# Altium integrated library WS-DISU 2.54 mm piano type compact SMD Dip Switch with flat actuator.IntLib: 18 symbols
Pins are listed as number, name and electrical type; pins without a type are passive.

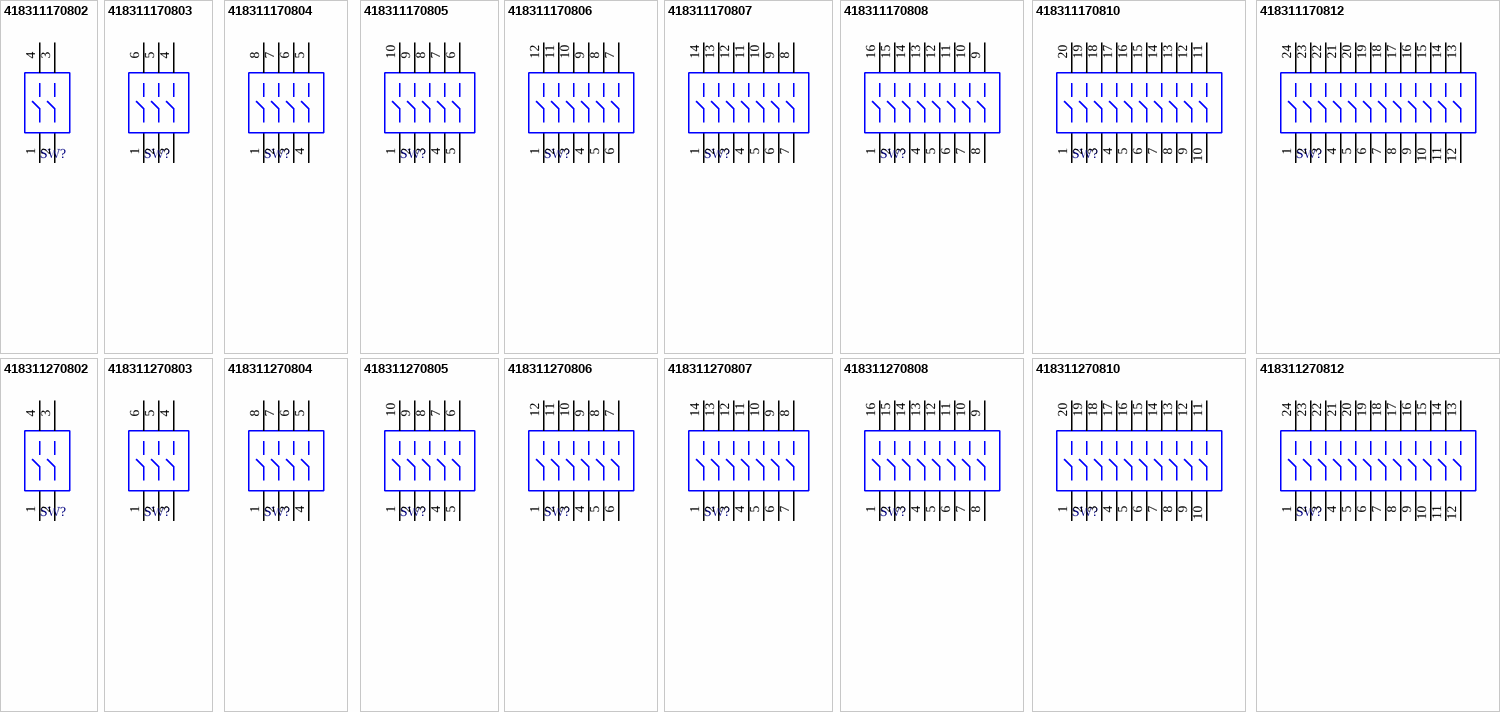
[diagram p0: symbols 418311170802 to 418311270812]

## 418311170802
designator SW?
WS-DISU 2.54 mm piano type compact SMD Dip Switch with flat actuator; PartNumber: 418311170802; NoPins: 4; PackageReference: 418311170802; ComponentLink1Description: Manufacturer URL; ComponentLink1URL: http://www.we-online.com; ComponentLink2Description: Datasheet; ComponentLink2URL: http://katalog.we-online.de/em/datasheet/4183111708xx.pdf
footprint 418311170802 (02p, 2.54mm Pitch, Piano, Box Type SMT, flat Actuator, black, without Tape, T&R)
pins: 1, 2, 3, 4

## 418311170803
designator SW?
WS-DISU 2.54 mm piano type compact SMD Dip Switch with flat actuator; PartNumber: 418311170803; NoPins: 6; PackageReference: 418311170803; ComponentLink1Description: Manufacturer URL; ComponentLink1URL: http://www.we-online.com; ComponentLink2Description: Datasheet; ComponentLink2URL: http://katalog.we-online.de/em/datasheet/4183111708xx.pdf
footprint 418311170803 (03p, 2.54mm Pitch, Piano, Box Type SMT, flat Actuator, black, without Tape, T&R)
pins: 1, 2, 3, 4, 5, 6

## 418311170804
designator SW?
WS-DISU 2.54 mm piano type compact SMD Dip Switch with flat actuator; PartNumber: 418311170804; NoPins: 8; PackageReference: 418311170804; ComponentLink1Description: Manufacturer URL; ComponentLink1URL: http://www.we-online.com; ComponentLink2Description: Datasheet; ComponentLink2URL: http://katalog.we-online.de/em/datasheet/4183111708xx.pdf
footprint 418311170804 (04p, 2.54mm Pitch, Piano, Box Type SMT, flat Actuator, black, without Tape, T&R)
pins: 1, 2, 3, 4, 5, 6, 7, 8

## 418311170805
designator SW?
WS-DISU 2.54 mm piano type compact SMD Dip Switch with flat actuator; PartNumber: 418311170805; NoPins: 10; PackageReference: 418311170805; ComponentLink1Description: Manufacturer URL; ComponentLink1URL: http://www.we-online.com; ComponentLink2Description: Datasheet; ComponentLink2URL: http://katalog.we-online.de/em/datasheet/4183111708xx.pdf
footprint 418311170805 (05p, 2.54mm Pitch, Piano, Box Type SMT, flat Actuator, black, without Tape, T&R)
pins: 1, 2, 3, 4, 5, 6, 7, 8, 9, 10

## 418311170806
designator SW?
WS-DISU 2.54 mm piano type compact SMD Dip Switch with flat actuator; PartNumber: 418311170806; NoPins: 12; PackageReference: 418311170806; ComponentLink1Description: Manufacturer URL; ComponentLink1URL: http://www.we-online.com; ComponentLink2Description: Datasheet; ComponentLink2URL: http://katalog.we-online.de/em/datasheet/4183111708xx.pdf
footprint 418311170806 (06p, 2.54mm Pitch, Piano, Box Type SMT, flat Actuator, black, without Tape, T&R)
pins: 1, 2, 3, 4, 5, 6, 7, 8, 9, 10, 11, 12

## 418311170807
designator SW?
WS-DISU 2.54 mm piano type compact SMD Dip Switch with flat actuator; PartNumber: 418311170807; NoPins: 14; PackageReference: 418311170807; ComponentLink1Description: Manufacturer URL; ComponentLink1URL: http://www.we-online.com; ComponentLink2Description: Datasheet; ComponentLink2URL: http://katalog.we-online.de/em/datasheet/4183111708xx.pdf
footprint 418311170807 (07p, 2.54mm Pitch, Piano, Box Type SMT, flat Actuator, black, without Tape, T&R)
pins: 1, 2, 3, 4, 5, 6, 7, 8, 9, 10, 11, 12, 13, 14

## 418311170808
designator SW?
WS-DISU 2.54 mm piano type compact SMD Dip Switch with flat actuator; PartNumber: 418311170808; NoPins: 16; PackageReference: 418311170808; ComponentLink1Description: Manufacturer URL; ComponentLink1URL: http://www.we-online.com; ComponentLink2Description: Datasheet; ComponentLink2URL: http://katalog.we-online.de/em/datasheet/4183111708xx.pdf
footprint 418311170808 (08p, 2.54mm Pitch, Piano, Box Type SMT, flat Actuator, black, without Tape, T&R)
pins: 1, 2, 3, 4, 5, 6, 7, 8, 9, 10, 11, 12, 13, 14, 15, 16

## 418311170810
designator SW?
WS-DISU 2.54 mm piano type compact SMD Dip Switch with flat actuator; PartNumber: 418311170810; NoPins: 20; PackageReference: 418311170810; ComponentLink1Description: Manufacturer URL; ComponentLink1URL: http://www.we-online.com; ComponentLink2Description: Datasheet; ComponentLink2URL: http://katalog.we-online.de/em/datasheet/4183111708xx.pdf
footprint 418311170810 (10p, 2.54mm Pitch, Piano, Box Type SMT, flat Actuator, black, without Tape, T&R)
pins: 1, 2, 3, 4, 5, 6, 7, 8, 9, 10, 11, 12, 13, 14, 15, 16, 17, 18, 19, 20

## 418311170812
designator SW?
WS-DISU 2.54 mm piano type compact SMD Dip Switch with flat actuator; PartNumber: 418311170812; NoPins: 24; PackageReference: 418311170812; ComponentLink1Description: Manufacturer URL; ComponentLink1URL: http://www.we-online.com; ComponentLink2Description: Datasheet; ComponentLink2URL: http://katalog.we-online.de/em/datasheet/4183111708xx.pdf
footprint 418311170812 (12p, 2.54mm Pitch, Piano, Box Type SMT, flat Actuator, black, without Tape, T&R)
pins: 1, 2, 3, 4, 5, 6, 7, 8, 9, 10, 11, 12, 13, 14, 15, 16, 17, 18, 19, 20, 21, 22, 23, 24

## 418311270802
designator SW?
WS-DISU 2.54 mm piano type compact SMD Dip Switch with raised actuator; PartNumber: 418311270802; NoPins: 04; PackageReference: 418311270802; ComponentLink1Description: Manufacturer URL; ComponentLink1URL: http://www.we-online.com; ComponentLink2Description: Datasheet; ComponentLink2URL: http://katalog.we-online.de/em/datasheet/4183112708xx.pdf
footprint 418311270802 (02p, 2.54mm Pitch, Piano, Box Type SMT, raised Actuator, black, without Tape, T&R)
pins: 1, 2, 3, 4

## 418311270803
designator SW?
WS-DISU 2.54 mm piano type compact SMD Dip Switch with raised actuator; PartNumber: 418311270803; NoPins: 06; PackageReference: 418311270803; ComponentLink1Description: Manufacturer URL; ComponentLink1URL: http://www.we-online.com; ComponentLink2Description: Datasheet; ComponentLink2URL: http://katalog.we-online.de/em/datasheet/4183112708xx.pdf
footprint 418311270803 (03p, 2.54mm Pitch, Piano, Box Type SMT, raised Actuator, black, without Tape, T&R)
pins: 1, 2, 3, 4, 5, 6

## 418311270804
designator SW?
WS-DISU 2.54 mm piano type compact SMD Dip Switch with raised actuator; PartNumber: 418311270804; NoPins: 8; PackageReference: 418311270804; ComponentLink1Description: Manufacturer URL; ComponentLink1URL: http://www.we-online.com; ComponentLink2Description: Datasheet; ComponentLink2URL: http://katalog.we-online.de/em/datasheet/4183112708xx.pdf
footprint 418311270804 (04p, 2.54mm Pitch, Piano, Box Type SMT, raised Actuator, black, without Tape, T&R)
pins: 1, 2, 3, 4, 5, 6, 7, 8

## 418311270805
designator SW?
WS-DISU 2.54 mm piano type compact SMD Dip Switch with raised actuator; PartNumber: 418311270805; NoPins: 10; PackageReference: 418311270805; ComponentLink1Description: Manufacturer URL; ComponentLink1URL: http://www.we-online.com; ComponentLink2Description: Datasheet; ComponentLink2URL: http://katalog.we-online.de/em/datasheet/4183112708xx.pdf
footprint 418311270805 (05p, 2.54mm Pitch, Piano, Box Type SMT, raised Actuator, black, without Tape, T&R)
pins: 1, 2, 3, 4, 5, 6, 7, 8, 9, 10

## 418311270806
designator SW?
WS-DISU 2.54 mm piano type compact SMD Dip Switch with raised actuator; PartNumber: 418311270806; NoPins: 12; PackageReference: 418311270806; ComponentLink1Description: Manufacturer URL; ComponentLink1URL: http://www.we-online.com; ComponentLink2Description: Datasheet; ComponentLink2URL: http://katalog.we-online.de/em/datasheet/4183112708xx.pdf
footprint 418311270806 (06p, 2.54mm Pitch, Piano, Box Type SMT, raised Actuator, black, without Tape, T&R)
pins: 1, 2, 3, 4, 5, 6, 7, 8, 9, 10, 11, 12

## 418311270807
designator SW?
WS-DISU 2.54 mm piano type compact SMD Dip Switch with raised actuator; PartNumber: 418311270807; NoPins: 14; PackageReference: 418311270807; ComponentLink1Description: Manufacturer URL; ComponentLink1URL: http://www.we-online.com; ComponentLink2Description: Datasheet; ComponentLink2URL: http://katalog.we-online.de/em/datasheet/4183112708xx.pdf
footprint 418311270807 (07p, 2.54mm Pitch, Piano, Box Type SMT, raised Actuator, black, without Tape, T&R)
pins: 1, 2, 3, 4, 5, 6, 7, 8, 9, 10, 11, 12, 13, 14

## 418311270808
designator SW?
WS-DISU 2.54 mm piano type compact SMD Dip Switch with raised actuator; PartNumber: 418311270808; NoPins: 16; PackageReference: 418311270808; ComponentLink1Description: Manufacturer URL; ComponentLink1URL: http://www.we-online.com; ComponentLink2Description: Datasheet; ComponentLink2URL: http://katalog.we-online.de/em/datasheet/4183112708xx.pdf
footprint 418311270808 (08p, 2.54mm Pitch, Piano, Box Type SMT, raised Actuator, black, without Tape, T&R)
pins: 1, 2, 3, 4, 5, 6, 7, 8, 9, 10, 11, 12, 13, 14, 15, 16

## 418311270810
designator SW?
WS-DISU 2.54 mm piano type compact SMD Dip Switch with raised actuator; PartNumber: 418311270810; NoPins: 20; PackageReference: 418311270810; ComponentLink1Description: Manufacturer URL; ComponentLink1URL: http://www.we-online.com; ComponentLink2Description: Datasheet; ComponentLink2URL: http://katalog.we-online.de/em/datasheet/4183112708xx.pdf
footprint 418311270810 (10p, 2.54mm Pitch, Piano, Box Type SMT, raised Actuator, black, without Tape, T&R)
pins: 1, 2, 3, 4, 5, 6, 7, 8, 9, 10, 11, 12, 13, 14, 15, 16, 17, 18, 19, 20

## 418311270812
designator SW?
WS-DISU 2.54 mm piano type compact SMD Dip Switch with raised actuator; PartNumber: 418311270812; NoPins: 24; PackageReference: 418311270812; ComponentLink1Description: Manufacturer URL; ComponentLink1URL: http://www.we-online.com; ComponentLink2Description: Datasheet; ComponentLink2URL: http://katalog.we-online.de/em/datasheet/4183112708xx.pdf
footprint 418311270812 (12p, 2.54mm Pitch, Piano, Box Type SMT, raised Actuator, black, without Tape, T&R)
pins: 1, 2, 3, 4, 5, 6, 7, 8, 9, 10, 11, 12, 13, 14, 15, 16, 17, 18, 19, 20, 21, 22, 23, 24